# EAGLE library part 61200821721 (library Wire-to-Board (rev18a))
WR-BHD 2.54mm Male Angled Box Header, 8 Pins=>Code : Con_WTB_BHD_2.54_Male_THT_WS_61200821721 <http://katalog.we-online.de/media/thumbs2/eican/thb_Con_WTB_BHD_2.54_Male_THT_WS_6120xx21721_pf2.jpg> Details see: http://katalog.we-online.de/en/em/612_0xx_217_21 Created 2014-06-05, Karrer Zheng 2014 (C) Würth Elektronik
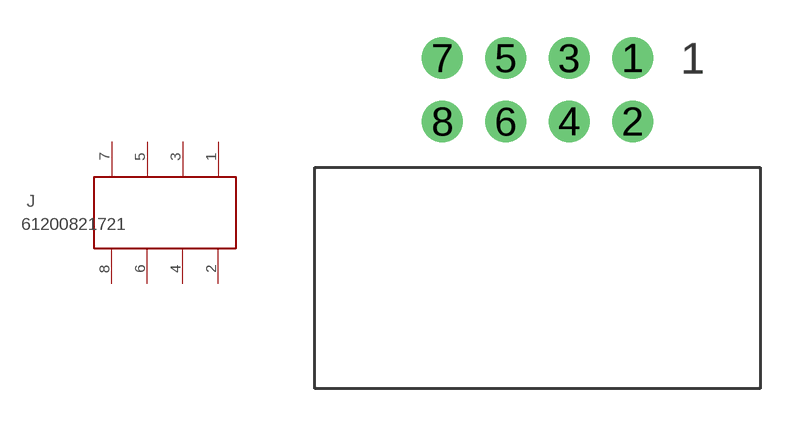
[diagram p117: symbol with the pads of 61200821721; footprint 61200821721]

Designator prefix J

## 61200821721  [61200821721]
1  8  pas
2  7  pas
3  6  pas
4  5  pas
5  4  pas
6  3  pas
7  2  pas
8  1  pas

## Footprint 61200821721 (pad centres in mm)
WR-BHD 2.54mm Male Angled Box Header, 8 Pins
drill 1.1: 1 3.81,1.27; 2 3.81,-1.27; 3 1.27,1.27; 4 1.27,-1.27; 5 -1.27,1.27; 6 -1.27,-1.27; 7 -3.81,1.27; 8 -3.81,-1.27